# EAGLE library part HEADER_2X3 (library jkf)
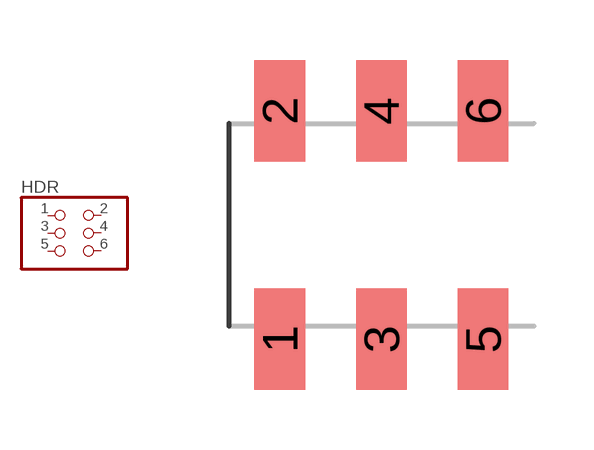
[diagram p2: symbol with the pads of HEADER_2X3; footprint HEADER_2X3]

Designator prefix HDR

## HEADER_2X3 (DIGIKEY#: 609-3487-1-ND; MANF: FCI; MANF#: 95278-101A06LF)  [HEADER_2X3]
1  1  pas
2  2  pas
3  3  pas
4  4  pas
5  5  pas
6  6  pas

## Footprint HEADER_2X3 (pad centres in mm)
smd 1.27 x 2.54: 1 -2.54,-2.853; 2 -2.54,2.862; 3 0,-2.853; 4 0,2.862; 5 2.54,-2.853; 6 2.54,2.862